# EAGLE library part GEC16DABN-M30 (library con-sullins)
HEADER - Vertical
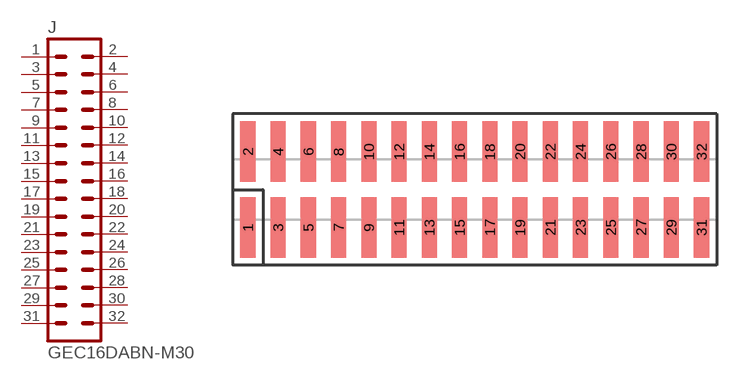
[diagram p12: symbol with the pads of GXC16; footprint GXC16]

Designator prefix J

## GEC16DABN-M30  [GXC16]
1  1  pas
2  2  pas
3  3  pas
4  4  pas
5  5  pas
6  6  pas
7  7  pas
8  8  pas
9  9  pas
10  10  pas
11  11  pas
12  12  pas
13  13  pas
14  14  pas
15  15  pas
16  16  pas
17  17  pas
18  18  pas
19  19  pas
20  20  pas
21  21  pas
22  22  pas
23  23  pas
24  24  pas
25  25  pas
26  26  pas
27  27  pas
28  28  pas
29  29  pas
30  30  pas
31  31  pas
32  32  pas

## Footprint GXC16 (pad centres in mm)
SMD HEADER - 0.1", Vertical
smd 1.27 x 5.08: 1 -19.05,-3.175; 2 -19.05,3.175; 3 -16.51,-3.175; 4 -16.51,3.175; 5 -13.97,-3.175; 6 -13.97,3.175; 7 -11.43,-3.175; 8 -11.43,3.175; 9 -8.89,-3.175; 10 -8.89,3.175; 11 -6.35,-3.175; 12 -6.35,3.175; 13 -3.81,-3.175; 14 -3.81,3.175; 15 -1.27,-3.175; 16 -1.27,3.175; 17 1.27,-3.175; 18 1.27,3.175; 19 3.81,-3.175; 20 3.81,3.175; 21 6.35,-3.175; 22 6.35,3.175; 23 8.89,-3.175; 24 8.89,3.175; 25 11.43,-3.175; 26 11.43,3.175; 27 13.97,-3.175; 28 13.97,3.175; 29 16.51,-3.175; 30 16.51,3.175; 31 19.05,-3.175; 32 19.05,3.175